# Altium footprint library RFM300W_RFM300HW.PcbLib: 1 footprints
Each footprint in its own frame and in the unit in brackets; x right, y up, seen from the top. Pads: shape width x height; smd on the part's side, far side on the other; paste and mask are expansions set on the pad; w line width, h text height; cw(c..) or ccw(c..) is an arc to the next point about the centre after c.
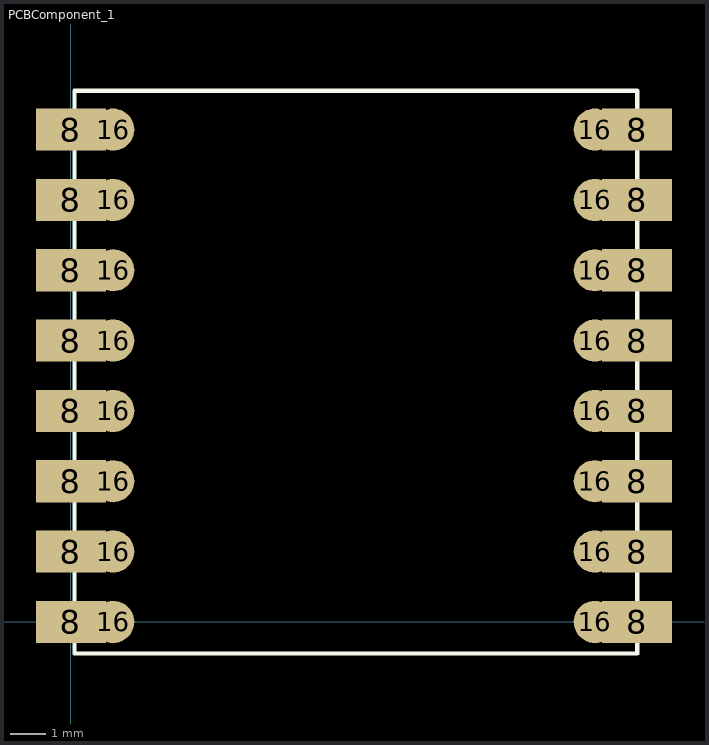
[diagram p0: the footprint, top view; thin cyan lines are the x and y axes]

## PCBComponent_1 [mm]
pads (32):
  rect 2x1.2 smd: 8(0,0) 8(0,2) 8(0,4) 8(0,6) 8(0,8) 8(0,10) 8(0,12) 8(0,14) 8(16.1,0) 8(16.1,2) 8(16.1,4) 8(16.1,6) 8(16.1,8) 8(16.1,10) 8(16.1,12) 8(16.1,14)
  round 1.2 smd: 16(1.2,0) 16(1.2,2) 16(1.2,4) 16(1.2,6) 16(1.2,8) 16(1.2,10) 16(1.2,12) 16(1.2,14) 16(14.9,0) 16(14.9,2) 16(14.9,4) 16(14.9,6) 16(14.9,8) 16(14.9,10) 16(14.9,12) 16(14.9,14)
Top Overlay:
  lines w0.127: 0.1,-0.9 0.1,15.1 16.1,15.1 16.1,-0.9 0.1,-0.9
Mechanical 4: